# Altium footprint library SnapEDApcb.PcbLib: 1 footprints
Each footprint in its own frame and in the unit in brackets; x right, y up, seen from the top. Pads: shape width x height; smd on the part's side, far side on the other; paste and mask are expansions set on the pad; w line width, h text height; cw(c..) or ccw(c..) is an arc to the next point about the centre after c.
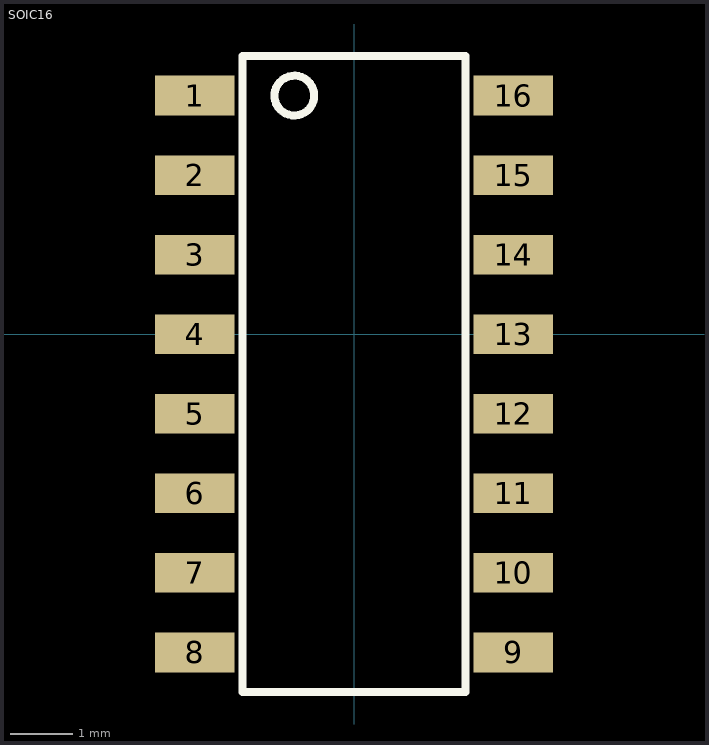
[diagram p0: the footprint, top view; thin cyan lines are the x and y axes]

## SOIC16 [mil]
pads (16):
  rect 50x25 smd: 1(-100,150) 2(-100,100) 3(-100,50) 4(-100,0) 5(-100,-50) 6(-100,-100) 7(-100,-150) 8(-100,-200) 9(100,-200) 10(100,-150) 11(100,-100) 12(100,-50) 13(100,0) 14(100,50) 15(100,100) 16(100,150)
Top Overlay:
  circle w5: c-37.5,150 r12.5
  lines w5: -70,-225 70,-225 70,175 -70,175 -70,-225